# Altium footprint library Tank.PcbLib: 288 footprints (part 5 of 18)
Each footprint in its own frame and in the unit in brackets; x right, y up, seen from the top. Pads: shape width x height; smd on the part's side, far side on the other; paste and mask are expansions set on the pad; w line width, h text height; cw(c..) or ccw(c..) is an arc to the next point about the centre after c.
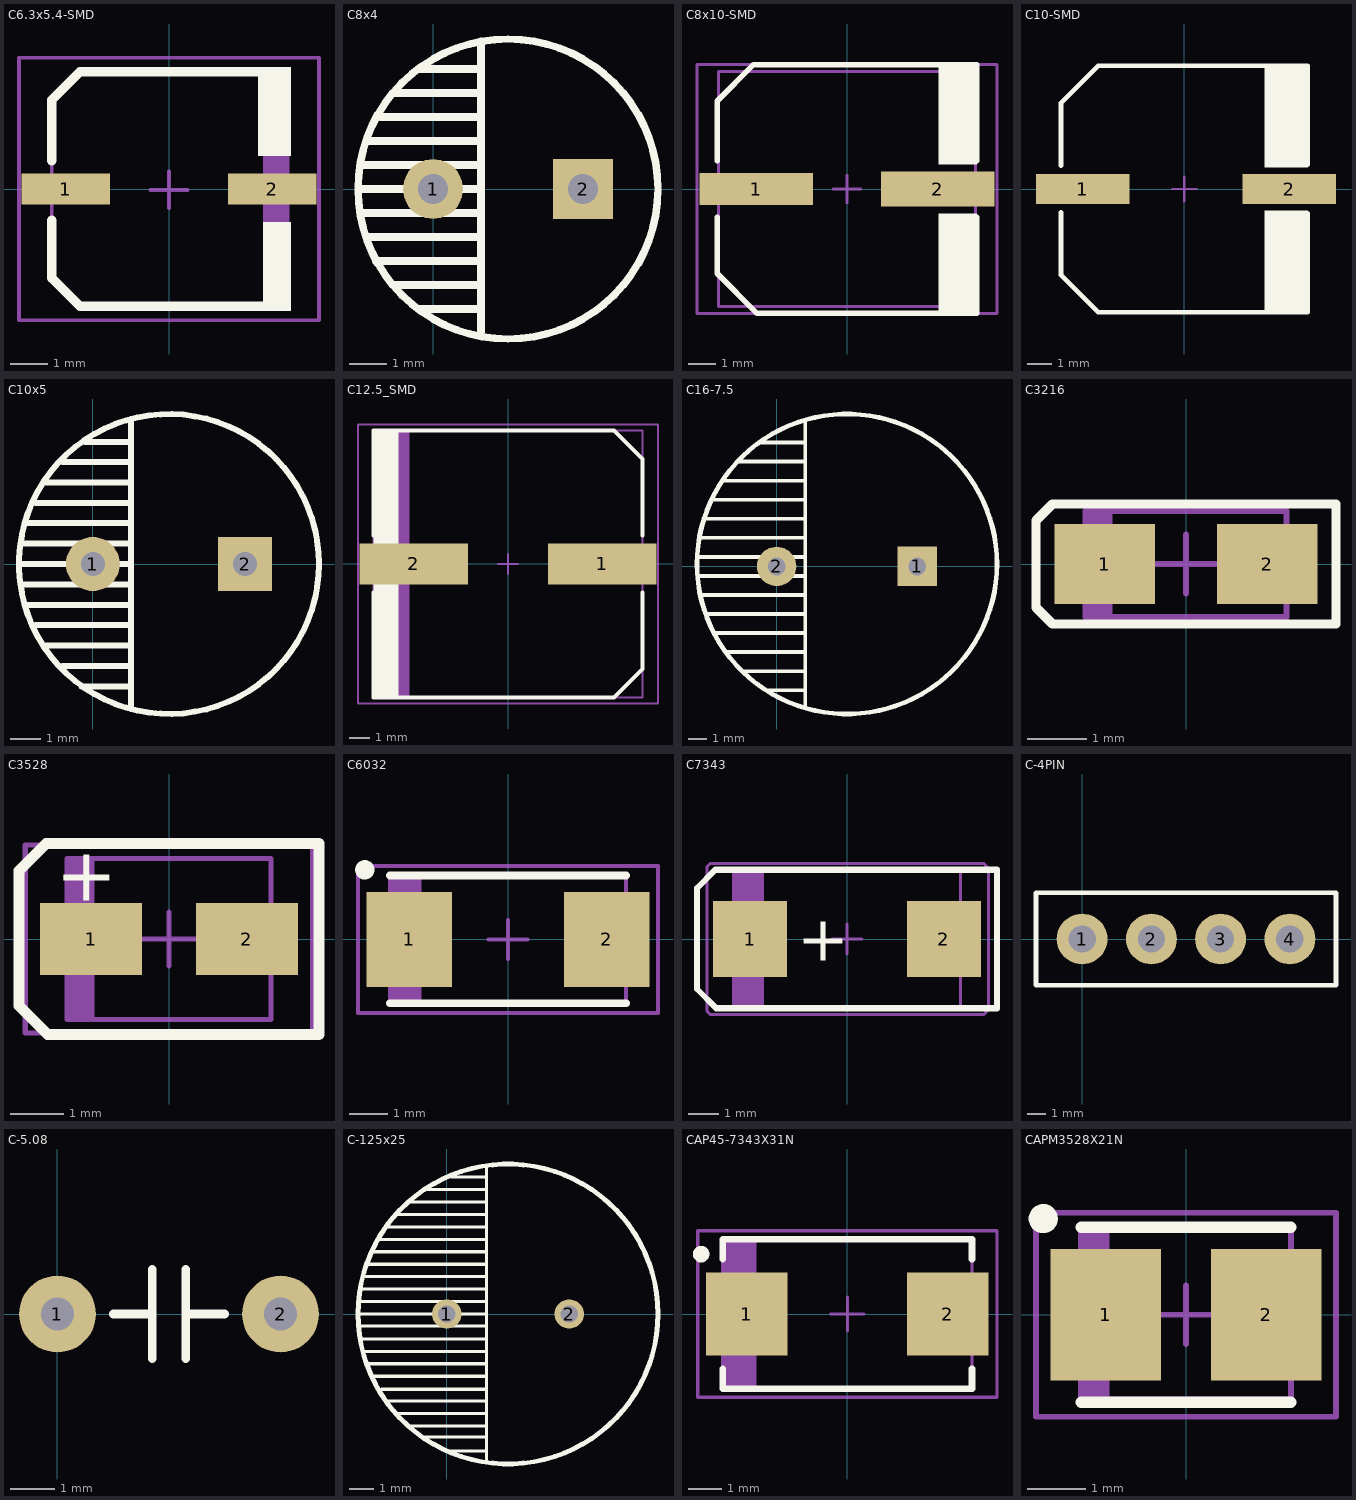
[diagram p4: the footprints below, top view; thin cyan lines are the x and y axes]

## C6.3x5.4-SMD [mm]
pads (2):
  rect 2.4x0.85 smd: 1(-2.794,0) 2(2.794,0)
Top Overlay:
  rectangle: 2.54,-3.302 3.302,-0.889
  rectangle: 2.413,0.889 3.302,3.302
  lines w0.254: -3.175,-0.85 -3.175,-2.413 -2.413,-3.175 2.921,-3.175 ; -3.175,0.762 -3.175,2.413 -2.413,3.175 3.048,3.175
Mechanical 13:
  rectangle: 2.54,-3.302 3.266,3.302
  lines w0.1: -3.175,-2.413 -3.175,2.413 -2.413,3.175 2.7,3.175 2.7,-3.175 -2.413,-3.175 -3.175,-2.413
Mechanical 15:
  lines w0.1: -0.5,-0.025 0.5,-0.025 ; 0,-0.525 0,0.475 ; -4.064,-3.556 4.064,-3.556 4.064,3.556 -4.064,3.556 -4.064,-3.556
3D body: height 3.5, standoff 0, extent -3.238,-3.175 3.238,3.175

## C8x4 [mm]
pads (2):
  round 1.6 hole 0.8: 1(0,0)
  rect 1.6x1.6 hole 0.8: 2(4,0)
Top Overlay:
  circle w0.2: c2,0 r4
  lines w0.203: -1.905,-0.64 1.27,-0.64 ; -1.905,0 1.27,0 ; -1.905,0.64 1.27,0.64 ; -1.778,-1.28 1.27,-1.28 ; -1.778,1.28 1.27,1.28 ; -1.524,-1.92 1.27,-1.92 ; -1.397,1.92 1.27,1.92 ; -1.016,-2.56 1.27,-2.56 ; -1.016,2.56 1.27,2.56 ; -0.381,-3.2 1.27,-3.2 ; -0.381,3.2 1.27,3.2 ; 1.28,-3.81 1.28,3.937

## C8x10-SMD [mm]
height 10.5
pads (2):
  rect 4.1x1.148 smd: 1(-3.277,0)
  rect 4.1x1.25 smd: 2(3.277,0)
Top Overlay:
  rectangle: 3.302,0.889 4.699,4.5
  rectangle: 3.302,-4.5 4.699,-0.889
  lines w0.2: -4.7,1.025 -4.7,3.174 -3.374,4.5 4.7,4.5 4.7,1.025 ; -4.699,-1.025 -4.699,-3.048 -3.247,-4.5 4.7,-4.5 4.7,-1.025
Mechanical 13:
  lines w0.1: -4.65,-4.25 -4.65,4.25 4.65,4.25 4.65,-4.25 -4.65,-4.25
Mechanical 15:
  lines w0.1: -0.5,0 0.5,0 ; 0,-0.5 0,0.5 ; -5.425,-4.5 -5.425,4.5 5.425,4.5 5.425,-4.5 -5.425,-4.5
3D body: height 10.5, standoff 0, extent -4.65,-4.25 4.65,4.25

## C10-SMD [mm]
height 10
pads (2):
  rect 3.85x1.25 smd: 1(-4.191,0) 2(4.318,0)
Top Overlay:
  rectangle: 3.302,0.889 5.08,5.08
  rectangle: 3.302,-5.08 5.08,-0.889
  lines w0.2: -5.08,-0.975 -5.08,-3.556 -3.556,-5.08 5.08,-5.08 5.08,-1.016 ; -5.08,0.975 -5.08,3.556 -3.556,5.08 5.08,5.08 5.08,1.016
Mechanical 15:
  lines w0.1: -0.5,0 0.5,0 ; 0,-0.5 0,0.5

## C10x5 [mm]
pads (2):
  round 1.8 hole 0.8: 1(0,0)
  rect 1.8x1.8 hole 0.8: 2(5.08,0)
Top Overlay:
  circle w0.2: c2.54,0 r5
  lines w0.203: -2.413,-0.68 1.27,-0.68 ; -2.413,0 1.27,0 ; -2.413,0.68 1.27,0.68 ; -2.159,-1.36 1.27,-1.36 ; -2.159,1.36 1.27,1.36 ; -1.905,-2.04 1.27,-2.04 ; -1.905,2.04 1.27,2.04 ; -1.651,-2.72 1.27,-2.72 ; -1.651,2.72 1.27,2.72 ; -1.016,-3.4 1.27,-3.4 ; -1.016,3.4 1.27,3.4 ; -0.381,-4.08 1.27,-4.08 ; -0.254,4.064 1.27,4.064 ; 1.27,-4.826 1.27,4.826

## C12.5_SMD [mm] "Precision Wire Wound Inductor, 2-Leads, Body 13.3x13.2mm, IPC Medium Density"
height 2.29
pads (2):
  rect 5.4x2.05 smd: 1(4.699,0) 2(-4.699,0)
Top Overlay:
  rectangle: -6.604,-6.604 -5.461,6.604
  lines w0.2: -6.7,-1.425 -6.7,-6.65 5.288,-6.65 6.7,-5.238 6.7,-1.425 ; -6.7,1.425 -6.7,6.65 5.288,6.65 6.7,5.238 6.7,1.425
  lines w0.203: -6.604,-6.604 -6.604,6.604
Mechanical 13:
  rectangle: -6.7,-6.65 -4.898,6.65
  lines w0.1: -6.7,-6.65 -6.7,6.65 6.7,6.65 6.7,-6.65 -6.7,-6.65
Mechanical 15:
  lines w0.1: -0.5,0 0.5,0 ; 0,-0.5 0,0.5 ; -7.475,-6.95 -7.475,6.95 7.475,6.95 7.475,-6.95 -7.475,-6.95
3D body: height 2.29, standoff 0, extent -6.7,-6.65 6.7,6.65

## C16-7.5 [mm]
pads (2):
  rect 2.1x2.1 hole 0.95: 1(7.5,0)
  round 2.1 hole 0.95: 2(0,0)
Top Overlay:
  circle w0.254: c3.75,0.127 r8
  lines w0.203: -4.191,-0.508 1.524,-0.508 ; -4.191,0.508 1.524,0.508 ; -4.064,1.524 1.524,1.524 ; -3.937,-1.524 1.524,-1.524 ; -3.81,-2.54 1.397,-2.54 ; -3.81,2.54 1.524,2.54 ; -3.429,3.556 1.524,3.556 ; -3.302,-3.556 1.524,-3.556 ; -2.921,4.572 1.524,4.572 ; -2.667,-4.572 1.524,-4.572 ; -2.032,5.588 1.524,5.588 ; -1.778,-5.588 1.524,-5.588 ; -0.889,6.604 1.524,6.604 ; -0.508,-6.604 1.524,-6.604 ; 1.524,-7.493 1.524,7.747

## C3216 [mm]
height 1.7
pads (2):
  rect 1.7x1.35 smd: 1(-1.375,0) 2(1.375,0)
Top Overlay:
  lines w0.152: -2.54,-0.737 -2.54,0.737 -2.261,1.016 2.54,1.016 2.54,-1.016 -2.261,-1.016 -2.54,-0.737
Mechanical 13:
  rectangle: -1.7,-0.9 -1.243,0.9
  lines w0.1: -1.7,-0.9 1.7,-0.9 1.7,0.9 -1.7,0.9 -1.7,-0.9
Mechanical 15:
  lines w0.1: -0.5,0 0.5,0 ; 0,-0.5 0,0.5
3D body: height 1.7, standoff 0, extent -1.7,-0.9 1.7,0.9

## C3528 [mm]
height 1.9
pads (2):
  rect 1.9x1.35 smd: 1(-1.45,0) 2(1.45,0)
Top Overlay:
  lines w0.2: -2.794,-1.245 -2.261,-1.778 2.794,-1.778 2.794,1.778 -2.286,1.778 -2.794,1.27 -2.794,-1.245
  text "+" at -2.108,0.711 h1
Mechanical 13:
  rectangle: -1.9,-1.5 -1.389,1.5
  lines w0.1: -1.9,-1.5 -1.9,1.5 1.9,1.5 1.9,-1.5 -1.9,-1.5
Mechanical 15:
  lines w0.1: -0.5,0 0.5,0 ; 0,-0.5 0,0.5 ; -2.675,-1.75 -2.675,1.75 2.675,1.75 2.675,-1.75 -2.675,-1.75
3D body: height 1.9, standoff 0, extent -1.9,-1.5 1.9,1.5

## C6032 [mm] "Molded Capacitor, 2-Leads, Body 6.1x3.3mm, IPC Medium Density"
height 3.1
pads (2):
  rect 2.2x2.45 smd: 1(-2.55,0) 2(2.55,0)
Top Overlay:
  circle w0.25: c-3.7,1.8 r0.125
  lines w0.2: -3.05,-1.65 3.05,-1.65 ; -3.05,1.65 3.05,1.65
Mechanical 13:
  rectangle: -3.05,-1.65 -2.23,1.65
  lines w0.1: -3.05,-1.65 3.05,-1.65 3.05,1.65 -3.05,1.65 -3.05,-1.65
Mechanical 15:
  lines w0.1: -0.5,0 0.5,0 ; 0,-0.5 0,0.5 ; -3.875,-1.9 3.875,-1.9 3.875,1.9 -3.875,1.9 -3.875,-1.9
3D body: height 3.1, standoff 0, extent -3.05,-1.65 3.05,1.65

## C7343 [mm] "Molded Capacitor, 2-Leads, Body 7.3x4.3mm, IPC Medium Density"
height 4.3
pads (2):
  rect 2.45x2.5 smd: 1(-3.2,0) 2(3.2,0)
Top Overlay:
  lines w0.2: -4.953,-1.651 -4.318,-2.286 4.953,-2.286 ; -4.953,1.676 -4.343,2.286 4.953,2.286
  lines w0.203: -4.953,-1.651 -4.953,1.676 ; 4.953,-2.286 4.953,2.286
  text "+" at -1.651,-0.711 h1.5
Mechanical 13:
  rectangle: -3.75,-2.25 -2.741,2.25
  lines w0.1: -3.75,-2.25 -3.75,2.25 3.75,2.25 3.75,-2.25 -3.75,-2.25
Mechanical 15:
  lines w0.1: -0.5,0 0.5,0 ; 0,-0.5 0,0.5 ; 4.5,-2.5 -4.51,-2.5 -4.521,-2.489 -4.623,-2.388 -4.623,2.388 -4.51,2.5 4.5,2.5 ; 4.521,-2.489 4.674,-2.337 4.674,2.337 4.521,2.489
3D body: height 4.3, standoff 0, extent -3.75,-2.25 3.75,2.25

## C-4PIN [mm]
pads (4):
  round 2.8 hole 1.5: 1(0,0) 2(3.81,0) 3(7.62,0) 4(11.43,0)
Top Overlay:
  lines w0.254: -2.54,-2.54 -2.54,2.54 13.97,2.54 13.97,1.27 13.97,-2.54 -1.27,-2.54 -2.54,-2.54

## C-5.08 [mm]
pads (2):
  round 1.75 hole 0.75: 1(0,0) 2(5.08,0)
Top Overlay:
  lines w0.2: 1.27,0 2.159,0 ; 2.159,-1.016 2.159,1.016 ; 2.921,-1.016 2.921,1.016 ; 2.921,0 3.81,0

## C-125x25 [mm]
pads (2):
  round 1.2 hole 0.7: 1(0,0) 2(5,0)
Top Overlay:
  circle w0.2: c2.5,0 r6.125
  lines w0.127: -3.607,0.508 1.626,0.508 ; -3.581,-0.483 1.575,-0.483 ; -3.581,0 1.626,0 ; -3.48,1.016 1.626,1.016 ; -3.454,-1.016 1.575,-1.016 ; -3.378,-1.524 1.6,-1.524 ; -3.378,1.524 1.6,1.524 ; -3.277,2.032 1.626,2.032 ; -3.251,-2.032 1.626,-2.032 ; -3.073,-2.54 1.6,-2.54 ; -2.997,2.54 1.626,2.54 ; -2.819,3.048 1.575,3.048 ; -2.667,-3.073 1.626,-3.073 ; -2.413,3.556 1.575,3.556 ; -2.388,-3.556 1.6,-3.556 ; -2.108,-4.064 1.6,-4.064 ; -2.007,4.064 1.626,4.064 ; -1.524,-4.572 1.6,-4.572 ; -1.499,4.572 1.575,4.572 ; -0.94,-5.029 1.626,-5.029 ; -0.864,5.08 1.575,5.08 ; -0.025,-5.588 1.6,-5.588 ; 0.178,5.588 1.6,5.588 ; 1.626,-6.02 1.626,6.045

## CAP45-7343X31N [mm] "Molded Capacitor, 2-Leads, Body 7.3x4.3mm, IPC Medium Density"
height 3.1
pads (2):
  rect 2.45x2.5 smd: 1(-3.025,0) 2(3.025,0)
Top Overlay:
  circle w0.25: c-4.4,1.8 r0.125
  lines w0.2: -3.75,-1.65 -3.75,-2.25 3.75,-2.25 3.75,-1.65 ; -3.75,1.65 -3.75,2.25 3.75,2.25 3.75,1.65
Mechanical 13:
  rectangle: -3.75,-2.25 -2.741,2.25
  lines w0.1: -3.75,-2.25 -3.75,2.25 3.75,2.25 3.75,-2.25 -3.75,-2.25
Mechanical 15:
  lines w0.1: -0.5,0 0.5,0 ; 0,-0.5 0,0.5 ; -4.5,-2.5 -4.5,2.5 4.5,2.5 4.5,-2.5 -4.5,-2.5
3D body: height 3.1, standoff 0, extent -3.75,-2.25 3.75,2.25

## CAPM3528X21N [mm]
height 1.9
pads (2):
  rect 1.9x2.25 smd: 1(-1.375,0) 2(1.375,0)
Top Overlay:
  circle w0.25: c-2.45,1.65 r0.125
  lines w0.2: -1.8,-1.5 1.8,-1.5 ; -1.8,1.5 1.8,1.5
Mechanical 13:
  rectangle: -1.8,-1.45 -1.316,1.45
  lines w0.1: -1.8,-1.45 -1.8,1.45 1.8,1.45 1.8,-1.45 -1.8,-1.45
Mechanical 15:
  lines w0.1: -0.5,0 0.5,0 ; 0,-0.5 0,0.5 ; -2.575,-1.75 -2.575,1.75 2.575,1.75 2.575,-1.75 -2.575,-1.75
3D body: height 1.9, standoff 0, extent -1.8,-1.45 1.8,1.45